# Altium schematic symbol library IC.SchLib: 51 symbols
Pins are listed as number, name and electrical type; pins without a type are passive.

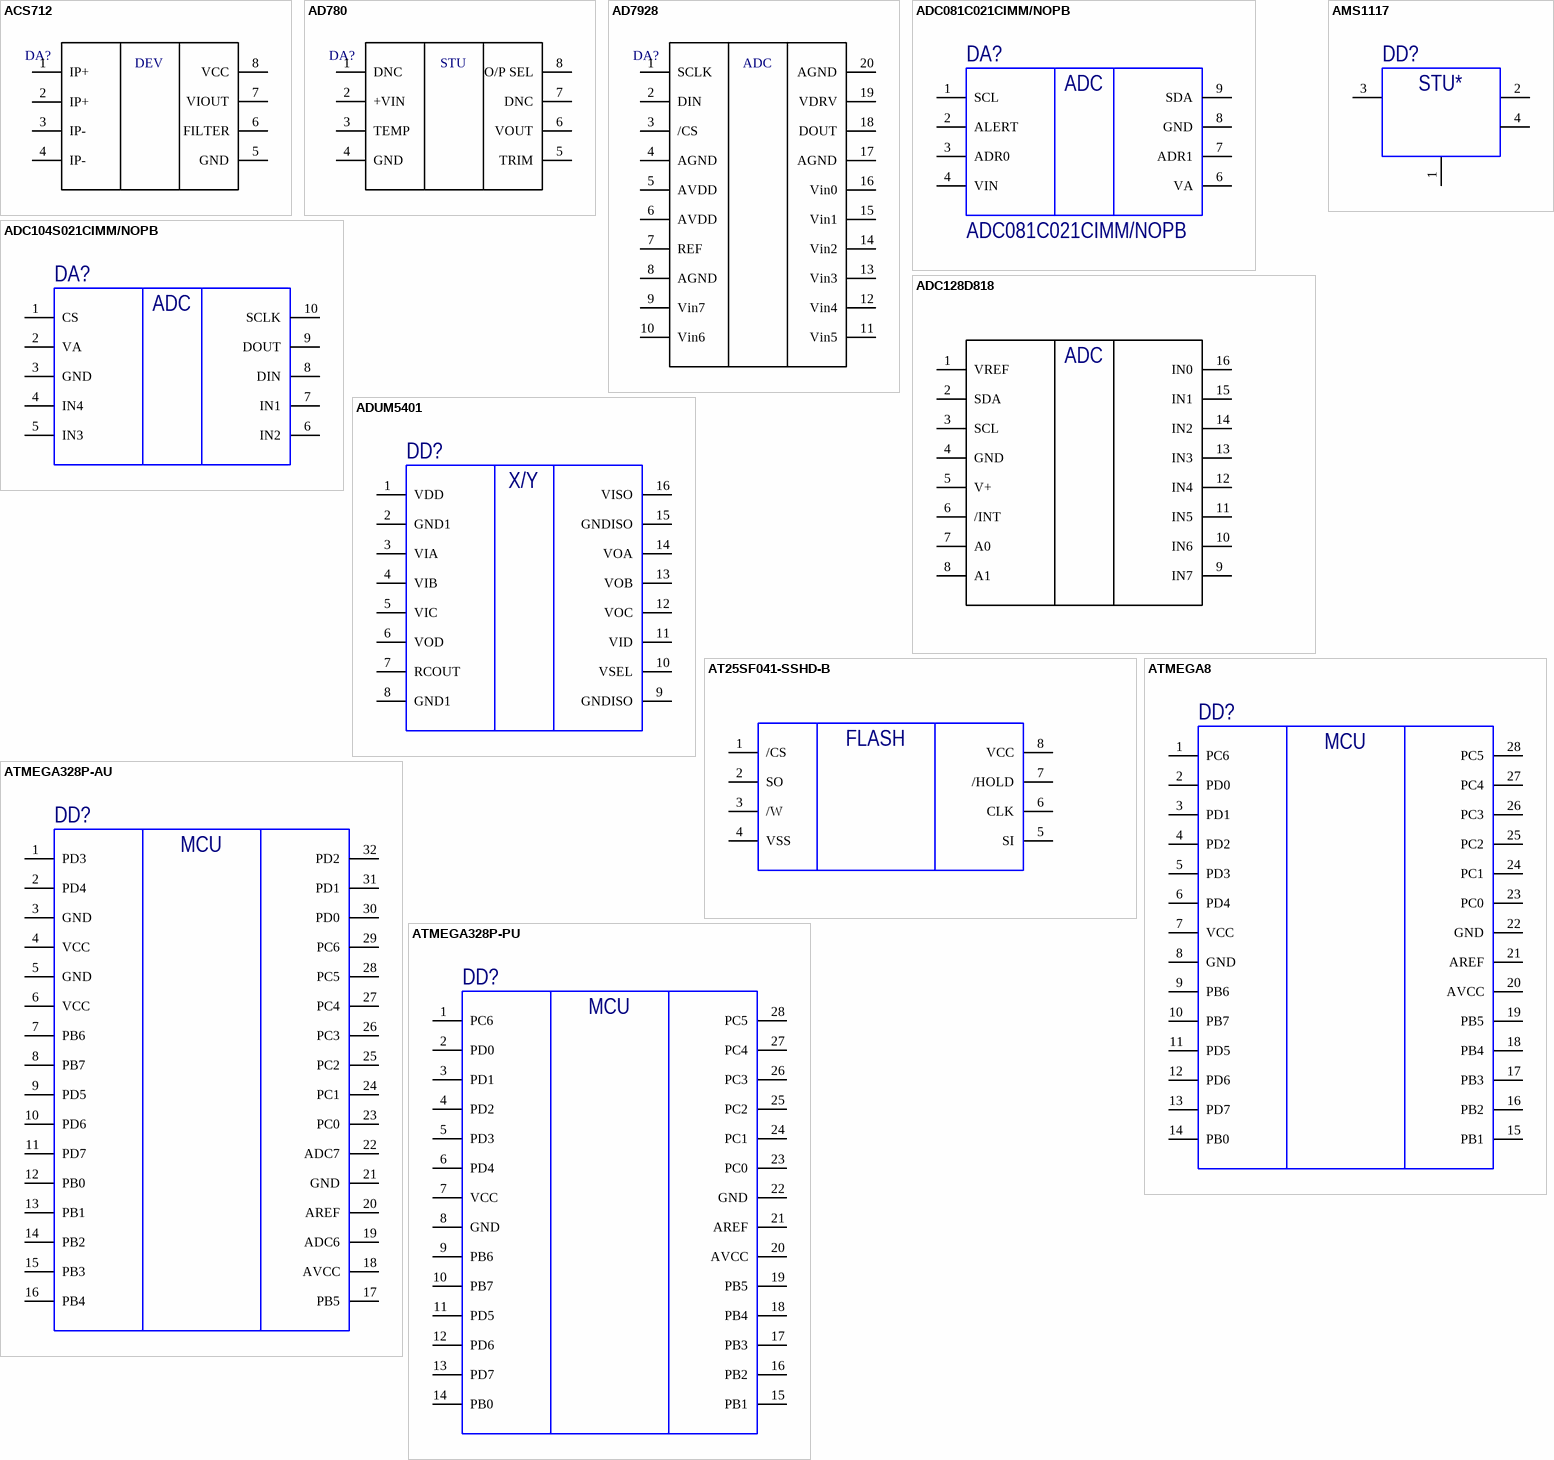
[diagram p0: symbols ACS712 to ATMEGA328P-PU]

## ACS712
designator DA?  (value not drawn)
ALLEGRO MICROSYSTEMS CS712ELCTR-30A-T; Supplier 1: Digi-Key; Supplier Part Number 1: 620-1191-1-ND
footprint SOIC127P600X175-8N (SOIC, 8-Leads, Body 4,90x3,90mm, Pitch 1,27mm, IPC Medium Density)
pins: 1 IP+, 2 IP+, 3 IP-, 4 IP-, 5 GND, 6 FILTER, 7 VIOUT, 8 VCC
text: DEV

## AD780
designator DA?  (value not drawn)
Supplier 1: Digi-Key; Supplier Part Number 1: AD780BRZ-ND
footprint SOIC127P600X175-8N (SOIC, 8-Leads, Body 4,90x3,90mm, Pitch 1,27mm, IPC Medium Density)
pins: 1 DNC, 2 +VIN, 3 TEMP, 4 GND, 5 TRIM, 6 VOUT, 7 DNC, 8 O/P SEL
text: STU

## AD7928
designator DA?  (value not drawn)
Supplier 1: Digi-Key; Supplier Part Number 1: AD7928WBRUZ-REELCT-ND
footprint TSOP65P640X120-20N (TSOP, 20-Leads, Body 6,50x4,40mm, Pitch 0,65mm, IPC Medium Density)
pins: 1 SCLK, 2 DIN, 3 /CS, 4 AGND, 5 AVDD, 6 AVDD, 7 REF, 8 AGND, 9 Vin7, 10 Vin6, 11 Vin5, 12 Vin4, 13 Vin3, 14 Vin2, 15 Vin1, 16 Vin0, 17 AGND, 18 DOUT, 19 VDRV, 20 AGND
text: ADC

## ADC081C021CIMM/NOPB
designator DA?
TEXAS INSTRUMENTS - ADC081C021CIMM/NOPB - ADC, 8BIT, 188.9KSPS, I2C, VSSOP-8; Sampling Rate: 188.9KS/s; Number of Bits: 8; Resolution: 8b; Number of A/D Converters: 1; Polarity: Unipolar; Max Power Dissipation: 12.6mW; Max Supply Voltage: 5.5V; Min Supply Voltage: 2.7V; Supply Type: Single; Integral Nonlinearity (INL): 0.25LSB; Signal to Noise Ratio (SNR): 49.8dB; Full Scale Error: 0.4LSB; Operating Supply Voltage: 5V; Manufacturer: Texas Instruments; Manufacturer Part Number: ADC081C021CIMM/NOPB; SMD: 1; Supplier 1: Digi-Key; RoHS: Yes; Category: Analog to Digital Converters (ADCs); Stock 1: 11038; Pricing 1: 1=1,16000, 10=1,03300, 25=0,98000, 100=0,75250, 250=0,66500, 500=0,63000 (USD); Mount: Surface Mount; Case/Package: MSOP; Number of Pins: 8; Contact Plating: Tin; Min Operating Temperature: -40°C; Max Operating Temperature: 105°C; Interface: I2C; Package Quantity: 1000; Number of Analog Inputs: 1; Packaging: Tape and Reel; Number of Channels: 1; Number of Converters: 1; Number of Elements: 1; Conversion Rate: 188.9KS/s; Differential Nonlinearity: 0.25LSB; Number of Inputs: 1; Length: 3.1mm; Width: 3.1mm; Height: 0.95mm; Radiation Hardening: No; REACH SVHC: No SVHC; Lead Free: Lead Free; ComponentLink1URL: https://datasheet.ciiva.com/14259/adc081c027-14259728.pdf?src-supplier=Avnet; ComponentLink1Description: https://datasheet.ciiva.com/14259/adc081c027-14259728.pdf?src-supplier=Avnet; ComponentLink2URL: https://datasheet.ciiva.com/13063/snas447b-26561-13063265.pdf?src-supplier=Mouser; ComponentLink2Description: https://datasheet.ciiva.com/13063/snas447b-26561-13063265.pdf?src-supplier=Mouser; ComponentLink3URL: https://datasheet.ciiva.com/15147/getdatasheetpartid-147321-15147782.pdf?src-supplier=Verical; ComponentLink3Description: https://datasheet.ciiva.com/15147/getdatasheetpartid-147321-15147782.pdf?src-supplier=Verical; ComponentLink4URL: https://datasheet.ciiva.com/6659/adc081c021-6659214.pdf?src-supplier=Digi-Key; ComponentLink4Description: https://datasheet.ciiva.com/6659/adc081c021-6659214.pdf?src-supplier=Digi-Key; ComponentLink5URL: https://datasheet.ciiva.com/41460/001186619-da-01-en-ic-adc-8-adc081c021cimm-nopb-vssop-8-tid-41460869.pdf?src-supplier=Conrad; ComponentLink5Description: https://datasheet.ciiva.com/41460/001186619-da-01-en-ic-adc-8-adc081c021cimm-nopb-vssop-8-tid-41460869.pdf?src-supplier=Conrad; Supplier Part Number 1: ADC081C021CIMM/NOPBCT-ND
footprint TSOP65P490X110-8M (TSOP, 8-Leads, Body 3,00x3,00mm, Pitch 0,65mm, IPC Low Density)
pins: 1 SCL, 2 ALERT, 3 ADR0, 4 VIN, 6 VA, 7 ADR1, 8 GND, 9 SDA
text: ADC

## ADC104S021CIMM/NOPB
designator DA?  (value not drawn)
IC ADC 10BIT SAR 10VSSOP; Manufacturer: Texas Instruments; Manufacturer Part Number: ADC104S021CIMM/NOPB; SMD: 1
footprint TSSOP50P490X110-10N (TSSOP, 10-Leads, Body 3,00x3,00mm, Pitch 0,50mm, IPC Medium Density)
pins: 1 CS, 2 VA, 3 GND, 4 IN4, 5 IN3, 6 IN2, 7 IN1, 8 DIN, 9 DOUT, 10 SCLK
text: ADC

## ADC128D818
designator DA?, comment ADC128D818CIMT/NOPB  (value not drawn)
IC ADC 12BIT SIGMA-DELTA 16TSSOP; Manufacturer: TI National Semiconductor; Interface: I2C,Serial; Max Supply Voltage: 5.5V; Min Supply Voltage: 3V; Nominal Supply Current: 740uA; Number of A/D Converters: 1; Number of Bits: 12; Number of Channels: 8; Polarity: Unipolar; Power Consumption: 2mW; Manufacturer Part Number: ADC128D818CIMT/NOPB; SMD: 1; Case/Package: TSSOP; Max Operating Temperature: 125°C; Min Operating Temperature: -40°C; Number of Converters: 1; Number of Elements: 1; Number of Inputs: 8; Number of Pins: 16
footprint TSOP65P640X120-16M (TSOP, 16-Leads, Body 5,00x4,40mm, Pitch 0,65mm, IPC Low Density)
pins: 1 VREF, 2 SDA, 3 SCL, 4 GND, 5 V+, 6 /INT, 7 A0, 8 A1, 9 IN7, 10 IN6, 11 IN5, 12 IN4, 13 IN3, 14 IN2, 15 IN1, 16 IN0
text: ADC

## ADUM5401
designator DD?
DGTL ISO 2.5KV GEN PURP 16SOIC; Manufacturer: Analog Devices Inc.; Manufacturer Part Number: ADUM5401ARWZ-RL; SMD: 1
footprint SOIC127P1030X265-16M (SOIC, 16-Leads, Body 10,30x7,50mm, Pitch 1,27mm, IPC Low Density)
pins: 1 VDD, 2 GND1, 3 VIA, 4 VIB, 5 VIC, 6 VOD, 7 RCOUT, 8 GND1, 9 GNDISO, 10 VSEL, 11 VID, 12 VOC, 13 VOB, 14 VOA, 15 GNDISO, 16 VISO
text: X/Y

## AMS1117
designator DD?  (value not drawn)
IC REG LIN 3.3V 800MA SOT223-4; Manufacturer: Texas Instruments; Manufacturer Part Number: LM1117MPX-3.3/NOPB; SMD: 1
footprint SOT230P700X180-4M (SOT223, 4-Leads, Body 6,50x7,00mm (avg), Pitch 2,30mm, IPC Low Density)
pins: 1 GND, 2 OUT, 3 IN, 4 OUT
text: STU*

## AT25SF041-SSHD-B
designator DD?
IC FLASH 4M SPI 104MHZ 8SOIC; Manufacturer: Adesto Technologies; Manufacturer Part Number: AT25SF041-SSHD-B; SMD: 1
footprint SOP127P600X175-8N (SOP, 8-Leads, Body 4,90x3,90mm, Pitch 1,27mm, IPC Medium Density)
pins: 1 /CS, 2 SO, 3 /W, 4 VSS, 5 SI, 6 CLK, 7 /HOLD, 8 VCC
text: FLASH

## ATMEGA8
designator DD?  (value not drawn)
IC MCU 8BIT 8KB FLASH 28DIP; Manufacturer: Microchip / Atmel; Manufacturer Part Number: ATMEGA8-16PU; TH: 1
footprint PDIP28 (Plastic Dual  Inline Package 28-lead)
pins: 1 PC6, 2 PD0, 3 PD1, 4 PD2, 5 PD3, 6 PD4, 7 VCC, 8 GND, 9 PB6, 10 PB7, 11 PD5, 12 PD6, 13 PD7, 14 PB0, 15 PB1, 16 PB2, 17 PB3, 18 PB4, 19 PB5, 20 AVCC, 21 AREF, 22 GND, 23 PC0, 24 PC1, 25 PC2, 26 PC3, 27 PC4, 28 PC5
text: MCU

## ATMEGA328P-AU
designator DD?  (value not drawn)
IC MCU 8BIT 32KB FLASH 32TQFP; Manufacturer: Microchip / Atmel; Manufacturer Part Number: ATMEGA328; SMD: 1
footprint TQFP80P900X900X120-32M (TQFP, 32-Leads, Body 7,00x7,00mm, Pitch 0,80mm, IPC Low Density)
pins: 1 PD3, 2 PD4, 3 GND, 4 VCC, 5 GND, 6 VCC, 7 PB6, 8 PB7, 9 PD5, 10 PD6, 11 PD7, 12 PB0, 13 PB1, 14 PB2, 15 PB3, 16 PB4, 17 PB5, 18 AVCC, 19 ADC6, 20 AREF, 21 GND, 22 ADC7, 23 PC0, 24 PC1, 25 PC2, 26 PC3, 27 PC4, 28 PC5, 29 PC6, 30 PD0, 31 PD1, 32 PD2
text: MCU

## ATMEGA328P-PU
designator DD?, comment ATMEGA328  (value not drawn)
IC MCU 8BIT 32KB FLASH 28DIP; Manufacturer: Microchip / Atmel; Manufacturer Part Number: ATMEGA328P-PU; TH: 1
footprint PDIP28 (Plastic Dual  Inline Package 28-lead)
pins: 1 PC6, 2 PD0, 3 PD1, 4 PD2, 5 PD3, 6 PD4, 7 VCC, 8 GND, 9 PB6, 10 PB7, 11 PD5, 12 PD6, 13 PD7, 14 PB0, 15 PB1, 16 PB2, 17 PB3, 18 PB4, 19 PB5, 20 AVCC, 21 AREF, 22 GND, 23 PC0, 24 PC1, 25 PC2, 26 PC3, 27 PC4, 28 PC5
text: MCU

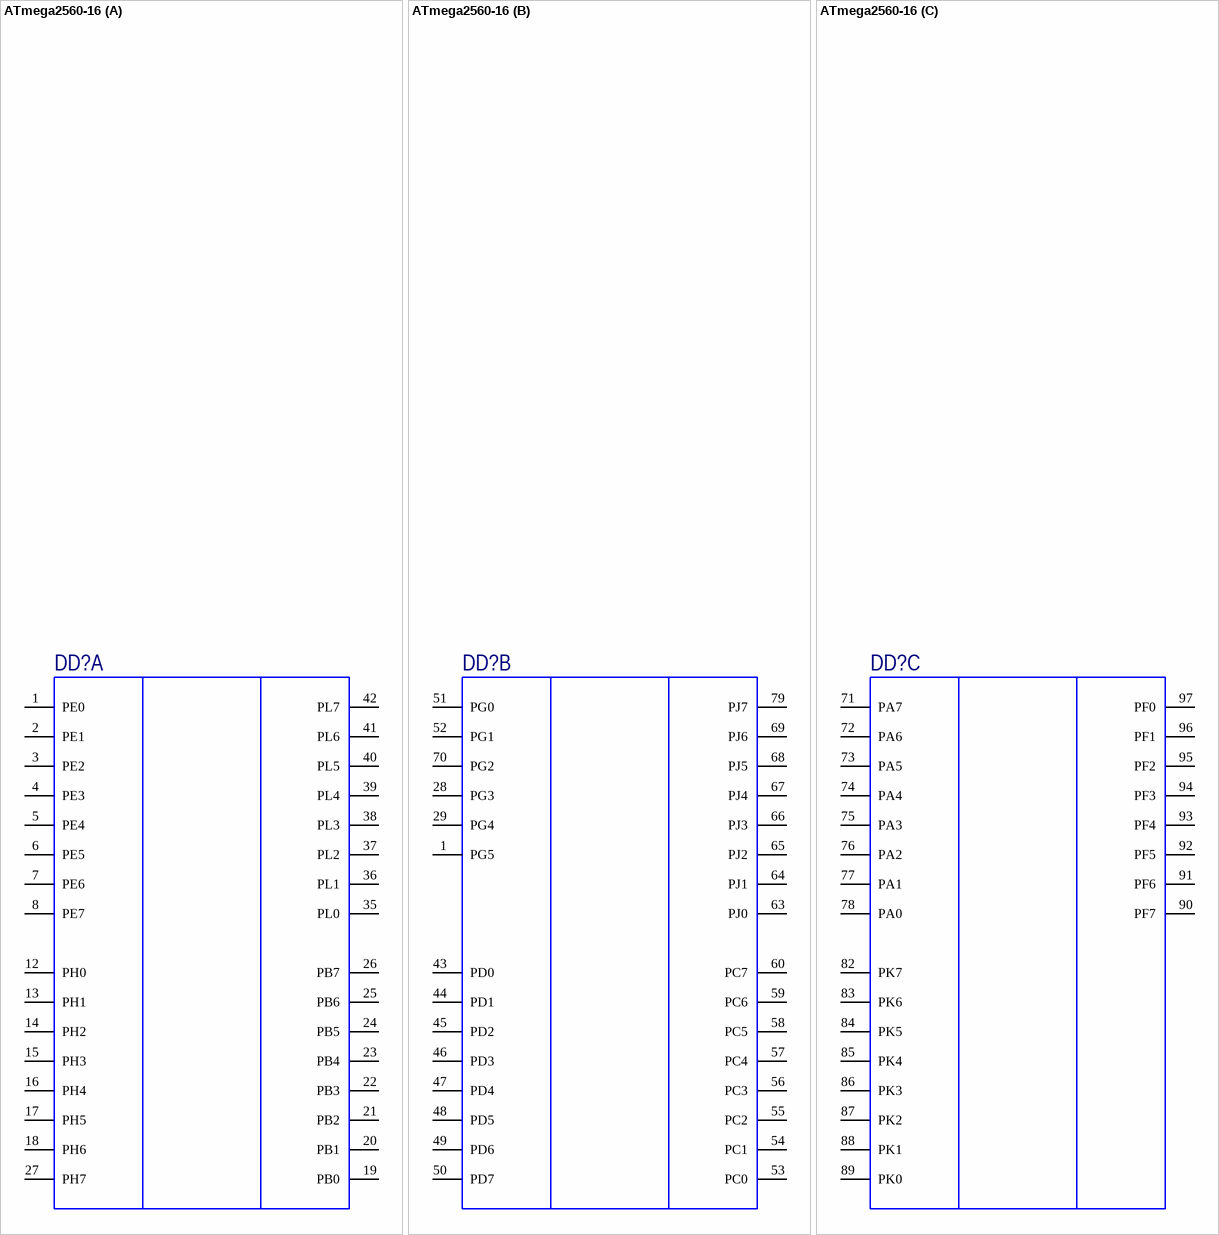
[diagram p1: symbol ATmega2560-16]

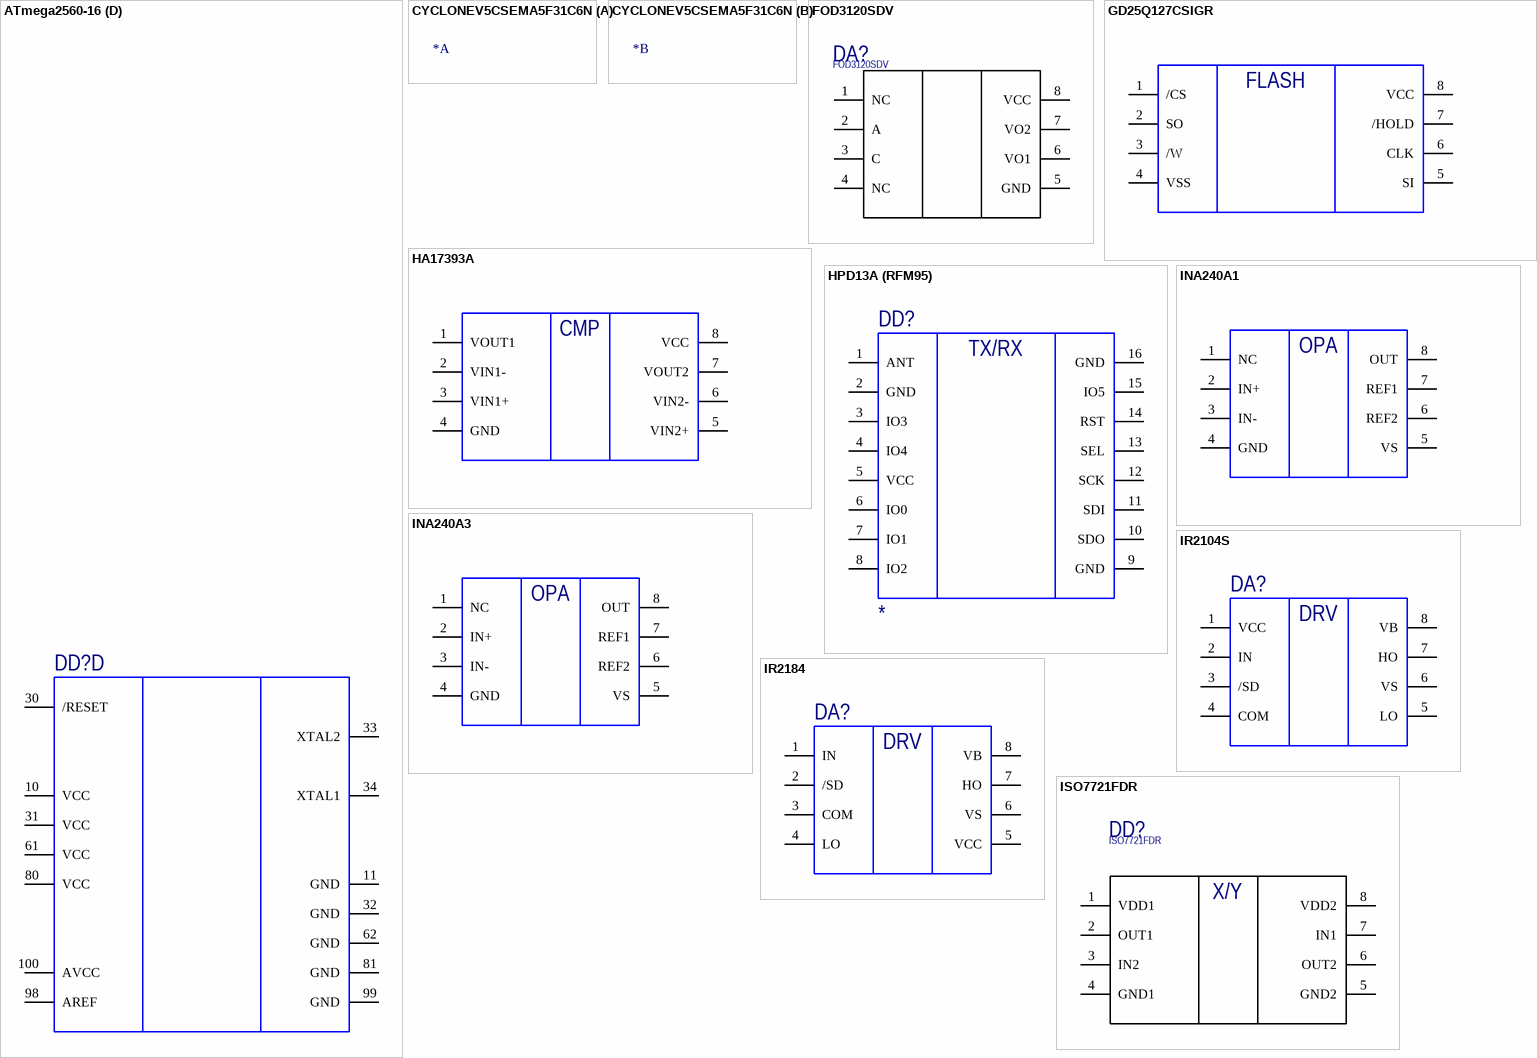
[diagram p2: symbols ATmega2560-16 to ISO7721FDR]

## ATmega2560-16
designator DD?
ATmega2560-16; Manufacturer: Microchip; Manufacturer Part Number: ATmega2560-16; SMD: 1
part A pins: 1 PE0, 2 PE1, 3 PE2, 4 PE3, 5 PE4, 6 PE5, 7 PE6, 8 PE7, 12 PH0, 13 PH1, 14 PH2, 15 PH3, 16 PH4, 17 PH5, 18 PH6, 19 PB0, 20 PB1, 21 PB2, 22 PB3, 23 PB4, 24 PB5, 25 PB6, 26 PB7, 27 PH7, 35 PL0, 36 PL1, 37 PL2, 38 PL3, 39 PL4, 40 PL5, 41 PL6, 42 PL7
part B pins: 1 PG5, 28 PG3, 29 PG4, 43 PD0, 44 PD1, 45 PD2, 46 PD3, 47 PD4, 48 PD5, 49 PD6, 50 PD7, 51 PG0, 52 PG1, 53 PC0, 54 PC1, 55 PC2, 56 PC3, 57 PC4, 58 PC5, 59 PC6, 60 PC7, 63 PJ0, 64 PJ1, 65 PJ2, 66 PJ3, 67 PJ4, 68 PJ5, 69 PJ6, 70 PG2, 79 PJ7
part C pins: 71 PA7, 72 PA6, 73 PA5, 74 PA4, 75 PA3, 76 PA2, 77 PA1, 78 PA0, 82 PK7, 83 PK6, 84 PK5, 85 PK4, 86 PK3, 87 PK2, 88 PK1, 89 PK0, 90 PF7, 91 PF6, 92 PF5, 93 PF4, 94 PF3, 95 PF2, 96 PF1, 97 PF0
part D pins: 10 VCC, 11 GND, 30 /RESET, 31 VCC, 32 GND, 33 XTAL2, 34 XTAL1, 61 VCC, 62 GND, 80 VCC, 81 GND, 98 AREF, 99 GND, 100 AVCC

## CYCLONEV5CSEMA5F31C6N
designator *  (value not drawn)
Supplier 1: Digi-Key; Supplier Part Number 1: 544-3539-ND; SMD: 1
footprint BGA896C100P30X30_3100X3100X240 (BGA, 896-Leads, Body 31,00x31,00mmx2,40mm, Pitch 1,00mm)

## FOD3120SDV
designator DA?
Fairchild FOD3120SDV MOSFET Output Optocoupler, Surface Mount, 8-Pin MDIP; Manufacturer: ON Semiconductor / Fairchild; Direction: Unidirectional; Max Power Dissipation: 250mW; Propagation Delay: 400ns; Rise Time: 60ns; Number of Channels: 1; High Level Output Current: 2A; Max Input Current: 25mA; Isolation Voltage: 5kV; Input Current: 16mA; Pulse Width Distortion (PWD): 100ns; Max Output Current: 3A; Forward Voltage: 1.5V; Output Type: PUSH-PULL; Input Type: DC; Approvals: UL,IEC; Supplier 1: Digi-Key; Manufacturer Part Number: FOD3120SDV; RoHS: Yes; Category: Optocouplers; Stock 1: 1000; Pricing 1: 1=2,01000, 10=1,27200, 100=0,94130, 500=0,86496 (USD); Mount: Surface Mount; Case/Package: SMD/SMT; Number of Pins: 8; Weight: 0.72g; Contact Plating: Tin,Matte; Min Operating Temperature: -40°C; Max Operating Temperature: 100°C; Packaging: Tape and Reel; Package Quantity: 1; Fall Time: 60ns; Low Level Output Current: 2A; Turn-On Delay Time: 400ns; Series: -; REACH SVHC: No SVHC; RoHS Compliant: Yes; ComponentLink1URL: https://datasheet.ciiva.com/2083/fod3120-2083115.pdf?src-supplier=Digi-Key; ComponentLink1Description: https://datasheet.ciiva.com/2083/fod3120-2083115.pdf?src-supplier=Digi-Key; ComponentLink2URL: https://datasheet.ciiva.com/2083/fod3120-2083116.pdf?src-supplier=Digi-Key; ComponentLink2Description: https://datasheet.ciiva.com/2083/fod3120-2083116.pdf?src-supplier=Digi-Key; ComponentLink3URL: https://datasheet.ciiva.com/26161/fod3120-26161948.pdf?src-supplier=Avnet+Europe; ComponentLink3Description: https://datasheet.ciiva.com/26161/fod3120-26161948.pdf?src-supplier=Avnet+Europe; ComponentLink4URL: https://datasheet.ciiva.com/2083/fod3120-2083117.pdf?src-supplier=Digi-Key; ComponentLink4Description: https://datasheet.ciiva.com/2083/fod3120-2083117.pdf?src-supplier=Digi-Key; ComponentLink5URL: https://datasheet.ciiva.com/1248/1524130-1248319.pdf?src-supplier=Element14; ComponentLink5Description: https://datasheet.ciiva.com/1248/1524130-1248319.pdf?src-supplier=Element14; Supplier Part Number 1: FOD3120SDVCT-ND
footprint SOP254P1040X508-8M (SOP, 8-Leads, Body 9,66x6,61mm, Pitch 2,54mm, IPC Low Density)
pins: 1 NC, 2 A, 3 C, 4 NC, 5 GND, 6 VO1, 7 VO2, 8 VCC

## GD25Q127CSIGR
designator DD?
IC FLASH 128Mb (16M x 8) SPI 8-SOIC (5.3mm Width); Manufacturer: GigaDevice Semiconductor (HK) Limited; Manufacturer Part Number: GD25Q127CSIGR; SMD: 1
footprint SOIC127P790X216-8M (SOIC, 8-Leads, Body 5,28x5,28mm, Pitch 1,27mm, IPC Low Density)
pins: 1 /CS, 2 SO, 3 /W, 4 VSS, 5 SI, 6 CLK, 7 /HOLD, 8 VCC
text: FLASH

## HA17393A
designator DA?
IC PREC COMPARATOR DUAL 8-DIP; Manufacturer: Renesas; Manufacturer Part Number: HA17393A; TH: 1
footprint DIP8
pins: 1 VOUT1, 2 VIN1-, 3 VIN1+, 4 GND, 5 VIN2+, 6 VIN2-, 7 VOUT2, 8 VCC
text: CMP

## HPD13A (RFM95)
designator DD?
RF TXRX MODULE ISM<1GHZ; Manufacturer: RF Solutions; Manufacturer Part Number: RFM95W-868S2; SMD: 1
footprint SOJ200P1600X200-16M (SOJ, 16-Leads, Body 16,00x16,00mm, Pitch 2,00mm, IPC Low Density)
pins: 1 ANT, 2 GND, 3 IO3, 4 IO4, 5 VCC, 6 IO0, 7 IO1, 8 IO2, 9 GND, 10 SDO, 11 SDI, 12 SCK, 13 SEL, 14 RST, 15 IO5, 16 GND
text: TX/RX

## INA240A1
designator DA?
IC CURR SENSE 1 CIRCUIT 8TSSOP GAIN 20V/V; Manufacturer Part Number: INA240A1PWR; Manufacturer: Texas Instruments; SMD: 1
footprint TSOP65P640X120-8M (TSOP, 8-Leads, Body 3,00x4,40mm, Pitch 0,65mm, IPC Low Density)
pins: 1 NC, 2 IN+, 3 IN-, 4 GND, 5 VS, 6 REF2, 7 REF1, 8 OUT
text: OPA

## INA240A3
designator DA?
IC CURR SENSE 1 CIRCUIT 8TSSOP; Manufacturer Part Number: INA240A3PWR; Manufacturer: Texas Instruments; SMD: 1
footprint TSOP65P640X120-8M (TSOP, 8-Leads, Body 3,00x4,40mm, Pitch 0,65mm, IPC Low Density)
pins: 1 NC, 2 IN+, 3 IN-, 4 GND, 5 VS, 6 REF2, 7 REF1, 8 OUT
text: OPA

## IR2104S
designator DA?  (value not drawn)
IC, MOSFET DRIVER, HIGH/LOW SIDE, SOIC-8; Manufacturer: Infineon Technologies; Manufacturer Part Number: IR2104STRPBF; SMD: 1
footprint SOIC127P600X175-8N (SOIC, 8-Leads, Body 4,90x3,90mm, Pitch 1,27mm, IPC Medium Density)
pins: 1 VCC, 2 IN, 3 /SD, 4 COM, 5 LO, 6 VS, 7 HO, 8 VB
text: DRV

## IR2184
designator DA?  (value not drawn)
IC, MOSFET DRIVER, HALF-BRIDGE, PDIP-8; Manufacturer: Infineon Technologies; Manufacturer Part Number: IR2104; TH: 1
footprint DIP8
pins: 1 IN, 2 /SD, 3 COM, 4 LO, 5 VCC, 6 VS, 7 HO, 8 VB
text: DRV

## ISO7721FDR
designator DD?
DGTL ISO 3KV GEN PRP 8SOIC; Manufacturer: Texas Instruments; Number of Channels: 2; Isolated Power: No; Channel Type: Unidirectional; Data Rate: 100Mbps; Propagation Delay: 16ns; Pulse Width Distortion (PWD): 4.9ns; Supplier 1: Digi-Key; Manufacturer Part Number: ISO7721FDR; RoHS: Yes; Category: Integrated Circuits (ICs); Stock 1: 4226; Pricing 1: 1=2,13000, 10=1,91000, 25=1,80200, 100=1,44160, 250=1,26140, 500=1,22536, 1000=0,97308 (USD); Mount: Surface Mount; Case/Package: SOIC; Number of Pins: 8; Min Operating Temperature: -55°C; Max Operating Temperature: 125°C; Type: General Purpose; Packaging: Tape and Reel; RoHS Compliant: Yes; ComponentLink1URL: http://www.ti.com/lit/ds/symlink/iso7720.pdf?src-supplier=Digi-Key; ComponentLink1Description: http://www.ti.com/lit/ds/symlink/iso7720.pdf?src-supplier=Digi-Key; Supplier Part Number 1: 296-48915-1-ND
footprint SOIC127P600X175-8N (SOIC, 8-Leads, Body 4,90x3,90mm, Pitch 1,27mm, IPC Medium Density)
pins: 1 VDD1, 2 OUT1, 3 IN2, 4 GND1, 5 GND2, 6 OUT2, 7 IN1, 8 VDD2
text: X/Y

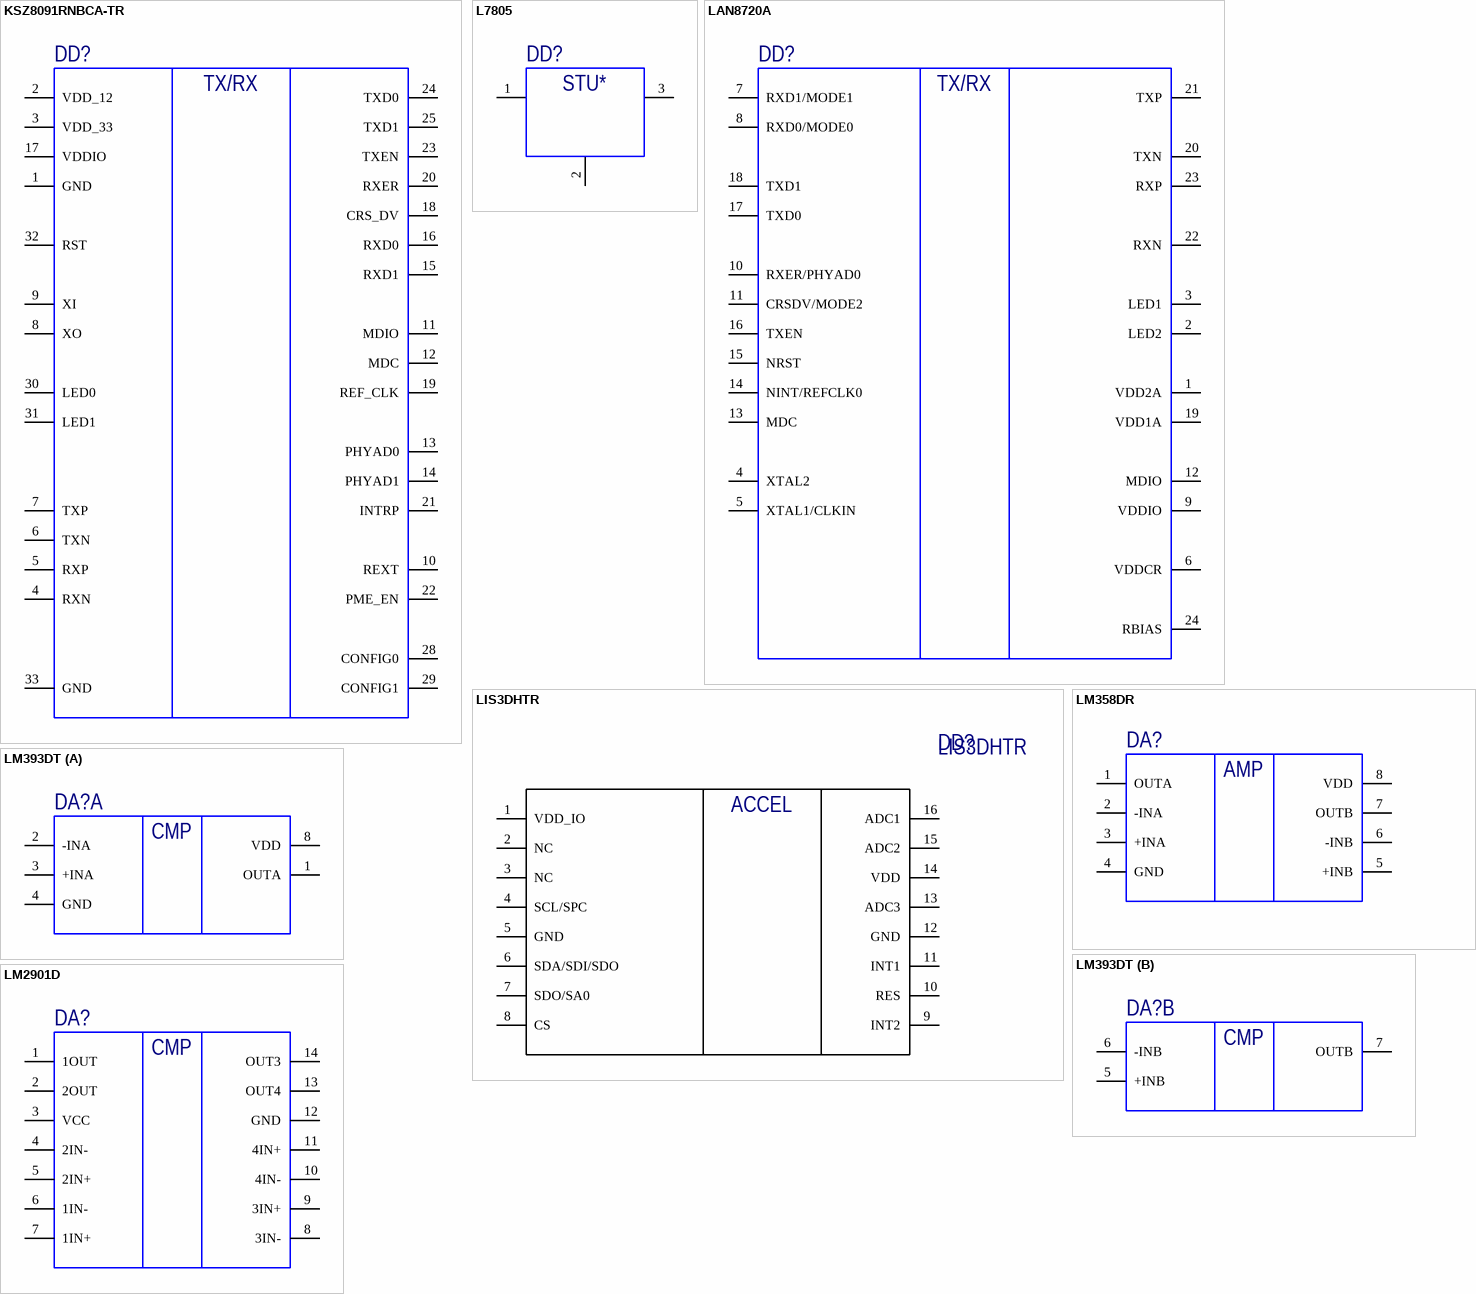
[diagram p3: symbols KSZ8091RNBCA-TR to LM2901D]

## KSZ8091RNBCA-TR
designator DD?
IC TXRX ETHERNET 32QFN; Manufacturer Part Number: KSZ8091RNBCA-TR; Manufacturer: Microchip Technology; SMD: 1
footprint QFN50P500X500X100_HS-33M (QFN, 32-Leads, Body 5,00x5,00mm, Pitch 0,50mm, Thermal Pad 3,10x3,10mm, IPC Low Density)
pins: 1 GND, 2 VDD_12, 3 VDD_33, 4 RXN, 5 RXP, 6 TXN, 7 TXP, 8 XO, 9 XI, 10 REXT, 11 MDIO, 12 MDC, 13 PHYAD0, 14 PHYAD1, 15 RXD1, 16 RXD0, 17 VDDIO, 18 CRS_DV, 19 REF_CLK, 20 RXER, 21 INTRP, 22 PME_EN, 23 TXEN, 24 TXD0, 25 TXD1, 28 CONFIG0, 29 CONFIG1, 30 LED0, 31 LED1, 32 RST, 33 GND
text: TX/RX

## L7805
designator DD?, comment L7805ABV  (value not drawn)
IC REG LINEAR 5V 1.5A TO220AB; Manufacturer: STMicroelectronics; TH: 1; Manufacturer Part Number: L7805ABV
footprint TO-220
pins: 1 IN, 2 GND, 3 OUT
text: STU*

## LAN8720A
designator DD?
IC TXRX ETHERNET 24QFN; Manufacturer: Microchip; Manufacturer Part Number: LAN8720A-CP-ABC; SMD: 1
footprint PQFN50P400X400X100_HS-25N (PQFN, 24-Leads, Body 4,00x4,00mm, Pitch 0,50mm, Thermal Pad 2,50x2,50mm, IPC Medium Density)
pins: 1 VDD2A, 2 LED2, 3 LED1, 4 XTAL2, 5 XTAL1/CLKIN, 6 VDDCR, 7 RXD1/MODE1, 8 RXD0/MODE0, 9 VDDIO, 10 RXER/PHYAD0, 11 CRSDV/MODE2, 12 MDIO, 13 MDC, 14 NINT/REFCLK0, 15 NRST, 16 TXEN, 17 TXD0, 18 TXD1, 19 VDD1A, 20 TXN, 21 TXP, 22 RXN, 23 RXP, 24 RBIAS
text: TX/RX

## LIS3DHTR
designator DD?
MEMS digital output motion sensor ultra low-power high performance 3-axes "nano" accelerometer; Manufacturer: STMicroelectronics; TH: 1; Interface: I2C,SPI; Max Supply Voltage: 3.6V; Min Supply Voltage: 1.71V; Operating Supply Current: 11uA; Operating Supply Voltage: 2.5V; Resolution: 16b; Sensor Type: 3 Axis; Axis: X, Y, Z; Bandwidth: 5kHz; Manufacturer Part Number: LIS3DHTR; Max Operating Temperature: 85°C; Length: 3mm; Max Supply Voltage (DC): 3.6V; Min Operating Temperature: -40°C; Min Supply Voltage (DC): 1.71V; Number of Pins: 16; Output Type: Digital; Width: 3mm; Supplier 1: Digi-Key; RoHS: Yes; Category: Uncategorized; Stock 1: 11582; Pricing 1: 1=1,49000, 10=1,32800, 25=1,26000, 100=1,03500, 500=0,85500, 1000=0,67500 (USD); Case/Package: LGA; Contact Plating: Gold; Package Quantity: 1; Packaging: Tape and Reel; Height: 1mm; Depth: 3mm; Radiation Hardening: No; Lead Free: Lead Free; REACH SVHC: No SVHC; ComponentLink1URL: https://datasheet.ciiva.com/7621/1718591-7621744.pdf?src-supplier=Element14; ComponentLink1Description: https://datasheet.ciiva.com/7621/1718591-7621744.pdf?src-supplier=Element14; ComponentLink2URL: https://datasheet.ciiva.com/16638/cd00274221-16638192.pdf?src-supplier=Avnet+Europe; ComponentLink2Description: https://datasheet.ciiva.com/16638/cd00274221-16638192.pdf?src-supplier=Avnet+Europe; ComponentLink3URL: https://datasheet.ciiva.com/5296/cd00274221-117431-5296513.pdf?src-supplier=Mouser; ComponentLink3Description: https://datasheet.ciiva.com/5296/cd00274221-117431-5296513.pdf?src-supplier=Mouser; ComponentLink4URL: https://datasheet.ciiva.com/26928/lis3dhtr-26928589.pdf?src-supplier=IIIC; ComponentLink4Description: https://datasheet.ciiva.com/26928/lis3dhtr-26928589.pdf?src-supplier=IIIC; ComponentLink5URL: https://datasheet.ciiva.com/2810/cd00274221-2810008.pdf?src-supplier=Digi-Key; ComponentLink5Description: https://datasheet.ciiva.com/2810/cd00274221-2810008.pdf?src-supplier=Digi-Key; ComponentLink6URL: https://datasheet.ciiva.com/2810/cd00274221-2810009.pdf?src-supplier=Digi-Key; ComponentLink6Description: https://datasheet.ciiva.com/2810/cd00274221-2810009.pdf?src-supplier=Digi-Key; ComponentLink7URL: https://datasheet.ciiva.com/48495/cd00274221-48495849.pdf?src-supplier=Avnet; ComponentLink7Description: https://datasheet.ciiva.com/48495/cd00274221-48495849.pdf?src-supplier=Avnet; ComponentLink8URL: https://datasheet.ciiva.com/2810/cd00274221-2810010.pdf?src-supplier=Digi-Key; ComponentLink8Description: https://datasheet.ciiva.com/2810/cd00274221-2810010.pdf?src-supplier=Digi-Key; ComponentLink9URL: https://datasheet.ciiva.com/16216/cd00274221-16216362.pdf?src-supplier=Future+Electronics; ComponentLink9Description: https://datasheet.ciiva.com/16216/cd00274221-16216362.pdf?src-supplier=Future+Electronics; ComponentLink10URL: https://datasheet.ciiva.com/16470/cd00274221-16470411.pdf?src-supplier=Avnet+Asia; ComponentLink10Description: https://datasheet.ciiva.com/16470/cd00274221-16470411.pdf?src-supplier=Avnet+Asia; ComponentLink11URL: https://datasheet.ciiva.com/3271/cd00274221-3271807.pdf?src-supplier=Avnet; ComponentLink11Description: https://datasheet.ciiva.com/3271/cd00274221-3271807.pdf?src-supplier=Avnet; Supplier Part Number 1: 497-10613-1-ND
footprint LGA-16
pins: 1 VDD_IO, 2 NC, 3 NC, 4 SCL/SPC, 5 GND, 6 SDA/SDI/SDO, 7 SDO/SA0, 8 CS, 9 INT2, 10 RES, 11 INT1, 12 GND, 13 ADC3, 14 VDD, 15 ADC2, 16 ADC1
text: ACCEL

## LM358DR
designator DA?
TEXAS INSTRUMENTS - LM358DR - Operational Amplifier, 2 Amplifier, 700 kHz, 0.3 V/µs, 3V to 32V, ± 1.5V to ± 16V, SOIC, 8 Pins; TH: 1; Number of Channels: 2; Output Current: 30mA; Voltage Gain: 100dB; Common Mode Rejection Ratio: 65dB; Nominal Supply Current: 1.2mA; Gain Bandwidth Product: 700kHz; Input Bias Current: 250nA; Input Offset Voltage (Vos): 7mV; Operating Supply Current: 1mA; Dual Supply Voltage: 9V; Manufacturer: Texas Instruments; Manufacturer Part Number: LM358DR; Supplier 1: Digi-Key; RoHS: Yes; Category: Amplifiers - Op Amps, Buffer, Instrumentation; Stock 1: 66026; Pricing 1: 1=0,40000, 10=0,29900, 25=0,26960, 100=0,14700, 250=0,14212, 500=0,12740, 1000=0,09800 (USD); Mount: Surface Mount; Case/Package: SOIC; Number of Pins: 8; Contact Plating: Gold; Min Operating Temperature: 0°C; Max Operating Temperature: 70°C; Packaging: Tape and Reel; Max Supply Voltage: 32V; Min Supply Voltage: 3V; Package Quantity: 2500; Min Dual Supply Voltage: 1.5V; Max Dual Supply Voltage: 16V; Operating Supply Voltage: 16V; Number of Elements: 2; Slew Rate: 0.3V/µs; Number of Circuits: 2; Output Current per Channel: 30mA; Power Supply Rejection Ratio (PSRR): 65dB; Unity Gain Bandwidth Product: 700kHz; Number of Amplifiers: 2; Bandwidth: 700kHz; Length: 4.9mm; Width: 3.91mm; Height: 1.58mm; Radiation Hardening: No; Lead Free: Lead Free; REACH SVHC: No SVHC; ComponentLink1URL: https://datasheet.ciiva.com/1795/lm358-1795488.pdf?src-supplier=Digi-Key; ComponentLink1Description: https://datasheet.ciiva.com/1795/lm358-1795488.pdf?src-supplier=Digi-Key; ComponentLink2URL: https://datasheet.ciiva.com/27056/2016330-27056228.pdf?src-supplier=Jameco; ComponentLink2Description: https://datasheet.ciiva.com/27056/2016330-27056228.pdf?src-supplier=Jameco; ComponentLink3URL: https://datasheet.ciiva.com/26847/lm358dr-26847142.pdf?src-supplier=IIIC; ComponentLink3Description: https://datasheet.ciiva.com/26847/lm358dr-26847142.pdf?src-supplier=IIIC; ComponentLink4URL: https://datasheet.ciiva.com/1795/lm358-1795489.pdf?src-supplier=Digi-Key; ComponentLink4Description: https://datasheet.ciiva.com/1795/lm358-1795489.pdf?src-supplier=Digi-Key; ComponentLink5URL: https://datasheet.ciiva.com/2973/lm358a-2973386.pdf?src-supplier=Avnet; ComponentLink5Description: https://datasheet.ciiva.com/2973/lm358a-2973386.pdf?src-supplier=Avnet; ComponentLink6URL: https://datasheet.ciiva.com/46385/1874566-46385851.pdf?src-supplier=Element14; ComponentLink6Description: https://datasheet.ciiva.com/46385/1874566-46385851.pdf?src-supplier=Element14; ComponentLink7URL: https://datasheet.ciiva.com/46390/1874566-46390414.pdf?src-supplier=Element14; ComponentLink7Description: https://datasheet.ciiva.com/46390/1874566-46390414.pdf?src-supplier=Element14; ComponentLink8URL: https://datasheet.ciiva.com/1795/lm358-1795487.pdf?src-supplier=Digi-Key; ComponentLink8Description: https://datasheet.ciiva.com/1795/lm358-1795487.pdf?src-supplier=Digi-Key; ComponentLink9URL: https://datasheet.ciiva.com/7709/1874566-7709823.pdf?src-supplier=Element14; ComponentLink9Description: https://datasheet.ciiva.com/7709/1874566-7709823.pdf?src-supplier=Element14; Supplier Part Number 1: 296-1014-1-ND
footprint SOIC127P790X216-8M (SOIC, 8-Leads, Body 5,28x5,28mm, Pitch 1,27mm, IPC Low Density)
pins: 1 OUTA, 2 -INA, 3 +INA, 4 GND, 5 +INB, 6 -INB, 7 OUTB, 8 VDD
text: AMP

## LM393DT
designator DA?
IC COMPARATOR LP DUAL 8-SOIC; Manufacturer Part Number: LM393DT; Manufacturer: STMicroelectronics; SMD: 1
footprint SOIC127P600X175-8N (SOIC, 8-Leads, Body 4,90x3,90mm, Pitch 1,27mm, IPC Medium Density)
part A pins: 1 OUTA, 2 -INA, 3 +INA, 4 GND, 8 VDD
part B pins: 5 +INB, 6 -INB, 7 OUTB
part A text: CMP
part B text: CMP

## LM2901D
designator DA?
IC QUAD DIFF COMPARATOR 14-SOIC; Manufacturer Part Number: LM2901DR; Manufacturer: Texas Instruments; SMD: 1
footprint SOIC127P600X175-14M (SOIC, 14-Leads, Body 8,65x3,90mm, Pitch 1,27mm, IPC Low Density)
pins: 1 1OUT, 2 2OUT, 3 VCC, 4 2IN-, 5 2IN+, 6 1IN-, 7 1IN+, 8 3IN-, 9 3IN+, 10 4IN-, 11 4IN+, 12 GND, 13 OUT4, 14 OUT3
text: CMP

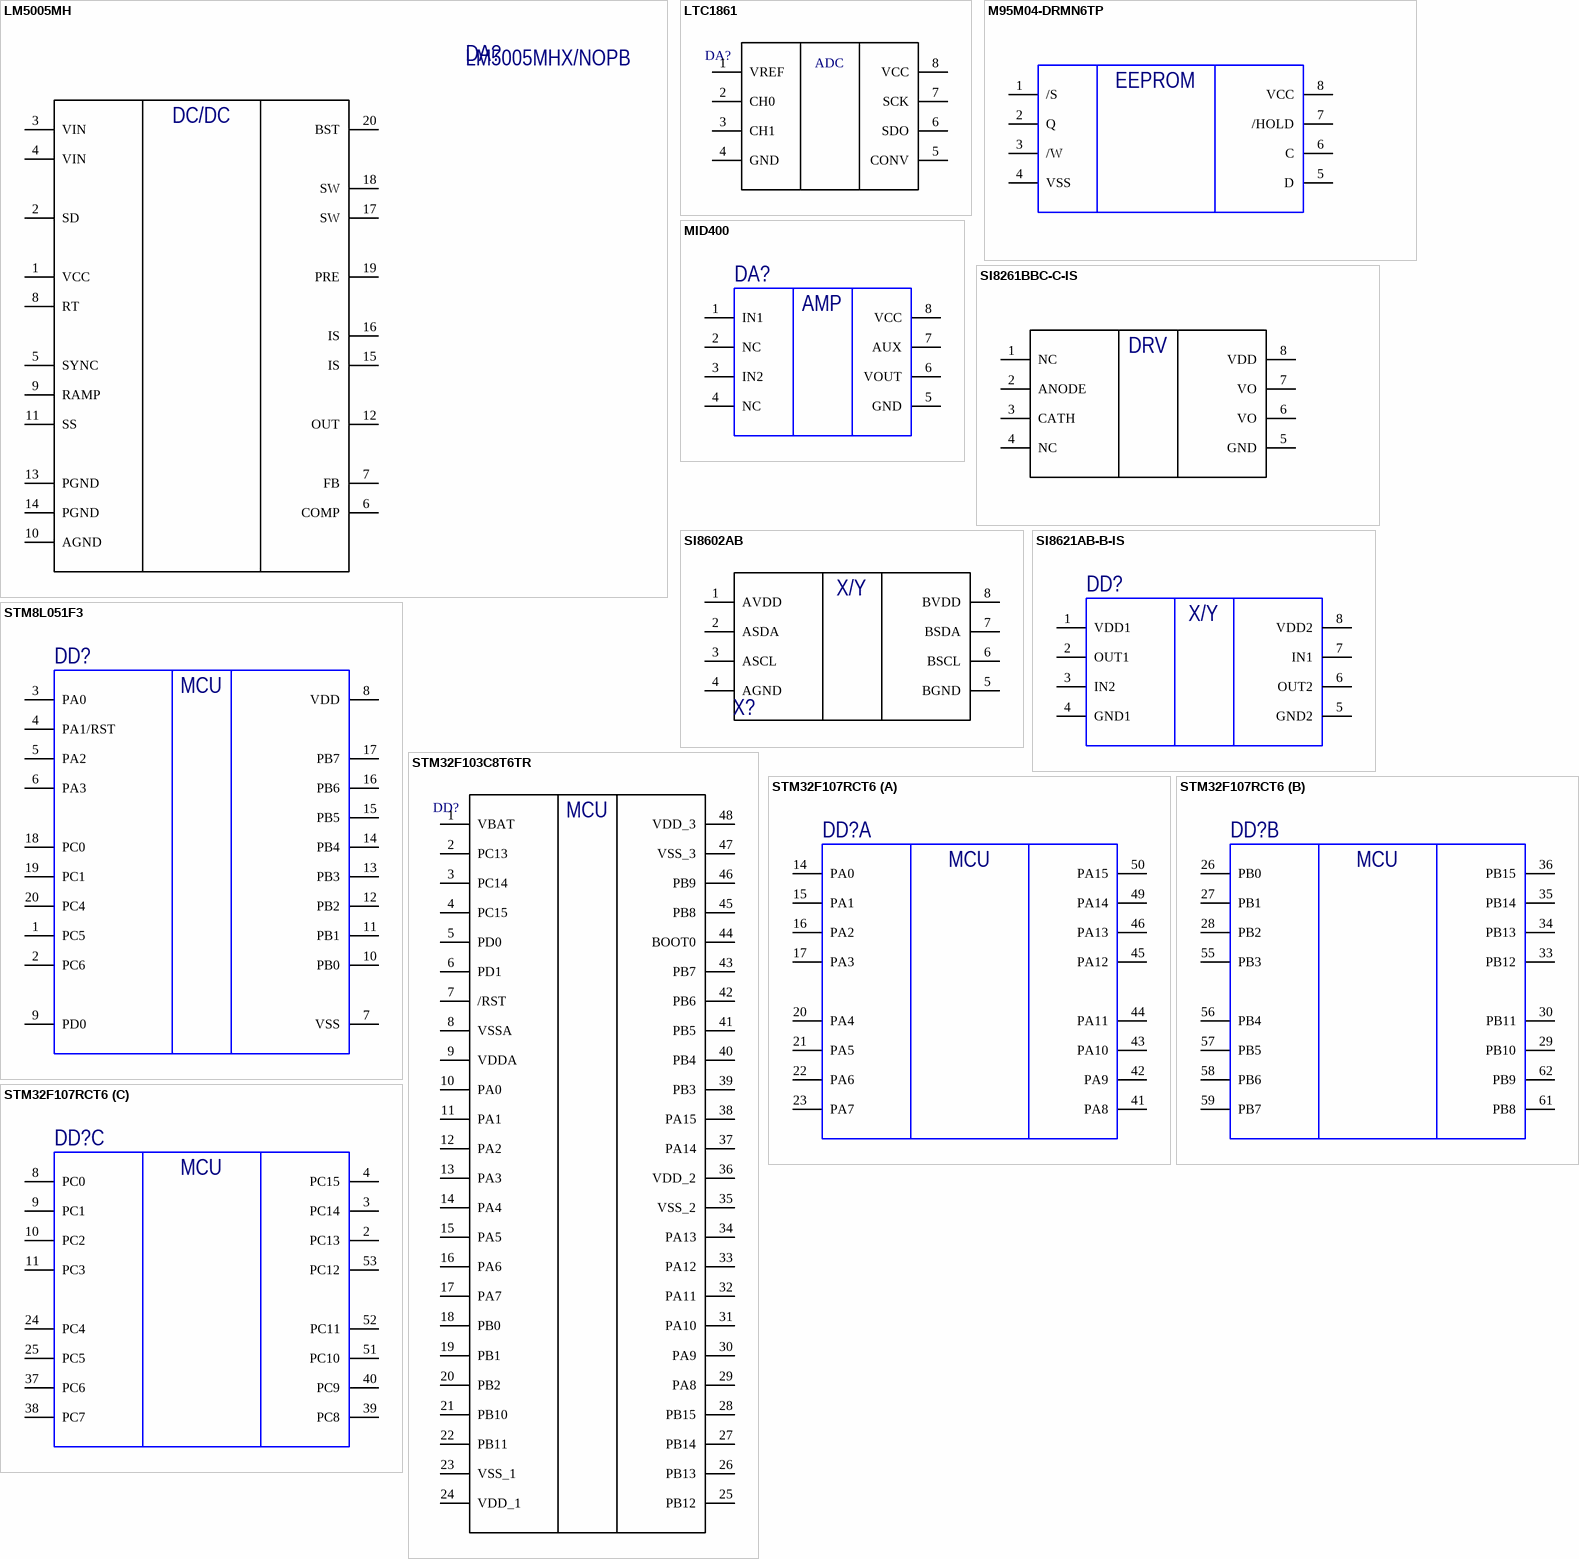
[diagram p4: symbols LM5005MH to STM32F107RCT6]

## LM5005MH
designator DA?, comment LM5005MHX/NOPB
IC REG BUCK ADJ 2.5A 20HTSSOP; Manufacturer: TI National Semiconductor; TH: 1; Efficiency: 90%; Max Input Voltage: 75V; Min Input Voltage: 7V; Output Voltage: 70V; Output Type: Adjustable; Quiescent Current: 3mA; Switching Frequency: 500kHz; Manufacturer Part Number: LM5005MHX/NOPB; Case/Package: TSSOP; Max Operating Temperature: 125°C; Min Operating Temperature: -40°C; Max Output Current: 2.5A; Mount: Surface Mount; Min Supply Voltage: 7V; Output Current: 2.5A
footprint TSOP65P640X120-20N (TSOP, 20-Leads, Body 6,50x4,40mm, Pitch 0,65mm, IPC Medium Density)
pins: 1 VCC, 2 SD, 3 VIN, 4 VIN, 5 SYNC, 6 COMP, 7 FB, 8 RT, 9 RAMP, 10 AGND, 11 SS, 12 OUT, 13 PGND, 14 PGND, 15 IS, 16 IS, 17 SW, 18 SW, 19 PRE, 20 BST
text: DC/DC

## LTC1861
designator DA?  (value not drawn)
IC ADC 12BIT SAR 8SOIC; Manufacturer: Linear Technology/Analog Devices; Manufacturer Part Number: LTC1861CS8#PBF; SMD: 1
footprint SOP127P600X175-8N (SOP, 8-Leads, Body 4,90x3,90mm, Pitch 1,27mm, IPC Medium Density)
pins: 1 VREF, 2 CH0, 3 CH1, 4 GND, 5 CONV, 6 SDO, 7 SCK, 8 VCC
text: ADC

## M95M04-DRMN6TP
designator DD?
EEPROM Memory IC 4Mb (512K x 8) SPI 10MHz  8-SOIC; Manufacturer: STMicroelectronics; Manufacturer Part Number: M95M04-DRMN6TP; SMD: 1
footprint SOP127P600X175-8N (SOP, 8-Leads, Body 4,90x3,90mm, Pitch 1,27mm, IPC Medium Density)
pins: 1 /S, 2 Q, 3 /W, 4 VSS, 5 D, 6 C, 7 /HOLD, 8 VCC
text: EEPROM

## MID400
designator DA?  (value not drawn)
MID400-ND; Manufacturer: ON Semiconductor; Manufacturer Part Number: MID400; TH: 1
footprint DIP8
pins: 1 IN1, 2 NC, 3 IN2, 4 NC, 5 GND, 6 VOUT, 7 AUX, 8 VCC
text: AMP

## SI8261BBC-C-IS
designator X?
DGTL ISO 3.75KV GATE DRVR 8SOIC; Manufacturer: Silicon Labs; Manufacturer Part Number: SI8261BBC-C-IS; SMD: 1
footprint SOIC127P600X175-8N (SOIC, 8-Leads, Body 4,90x3,90mm, Pitch 1,27mm, IPC Medium Density)
pins: 1 NC, 2 ANODE, 3 CATH, 4 NC, 5 GND, 6 VO, 7 VO, 8 VDD
text: DRV

## SI8602AB
designator X?
DGTL ISOL 2500VRMS 2CH I2C 8SOIC; Manufacturer: Silicon Labs; Manufacturer Part Number: SI8602AB; SMD: 1
footprint SOIC127P600X175-8N (SOIC, 8-Leads, Body 4,90x3,90mm, Pitch 1,27mm, IPC Medium Density)
pins: 1 AVDD, 2 ASDA, 3 ASCL, 4 AGND, 5 BGND, 6 BSCL, 7 BSDA, 8 BVDD
text: X/Y

## SI8621AB-B-IS
designator DD?
DGTL ISO 2.5KV GEN PURP 1FORWARD&1REVERSE 8SOIC; Manufacturer: Silicon Labs; Manufacturer Part Number: SI8621AB-B-IS; SMD: 1
footprint SOIC127P600X175-8N (SOIC, 8-Leads, Body 4,90x3,90mm, Pitch 1,27mm, IPC Medium Density)
pins: 1 VDD1, 2 OUT1, 3 IN2, 4 GND1, 5 GND2, 6 OUT2, 7 IN1, 8 VDD2
text: X/Y

## STM8L051F3
designator DD?
IC MCU 8BIT 8KB FLASH 20TSSOP; Manufacturer: STMicroelectronics; Manufacturer Part Number: STM8L051F3P6; SMD: 1
footprint TSOP65P640X120-20M (TSOP, 20-Leads, Body 6,50x4,40mm, Pitch 0,65mm, IPC Low Density)
pins: 1 PC5, 2 PC6, 3 PA0, 4 PA1/RST, 5 PA2, 6 PA3, 7 VSS, 8 VDD, 9 PD0, 10 PB0, 11 PB1, 12 PB2, 13 PB3, 14 PB4, 15 PB5, 16 PB6, 17 PB7, 18 PC0, 19 PC1, 20 PC4
text: MCU

## STM32F103C8T6TR
designator DD?  (value not drawn)
IC MCU 32BIT 64KB FLASH 48LQFP; Manufacturer Part Number: STM32F103C8T6TR; Manufacturer: STMicroelectronics; SMD: 1
footprint TSQFP50P900X900X160-48M (TSQFP, 48-Leads, Body 7,00x7,00mm, Pitch 0,50mm, IPC Low Density)
pins: 1 VBAT, 2 PC13, 3 PC14, 4 PC15, 5 PD0, 6 PD1, 7 /RST, 8 VSSA, 9 VDDA, 10 PA0, 11 PA1, 12 PA2, 13 PA3, 14 PA4, 15 PA5, 16 PA6, 17 PA7, 18 PB0, 19 PB1, 20 PB2, 21 PB10, 22 PB11, 23 VSS_1, 24 VDD_1, 25 PB12, 26 PB13, 27 PB14, 28 PB15, 29 PA8, 30 PA9, 31 PA10, 32 PA11, 33 PA12, 34 PA13, 35 VSS_2, 36 VDD_2, 37 PA14, 38 PA15, 39 PB3, 40 PB4, 41 PB5, 42 PB6, 43 PB7, 44 BOOT0, 45 PB8, 46 PB9, 47 VSS_3, 48 VDD_3
text: MCU

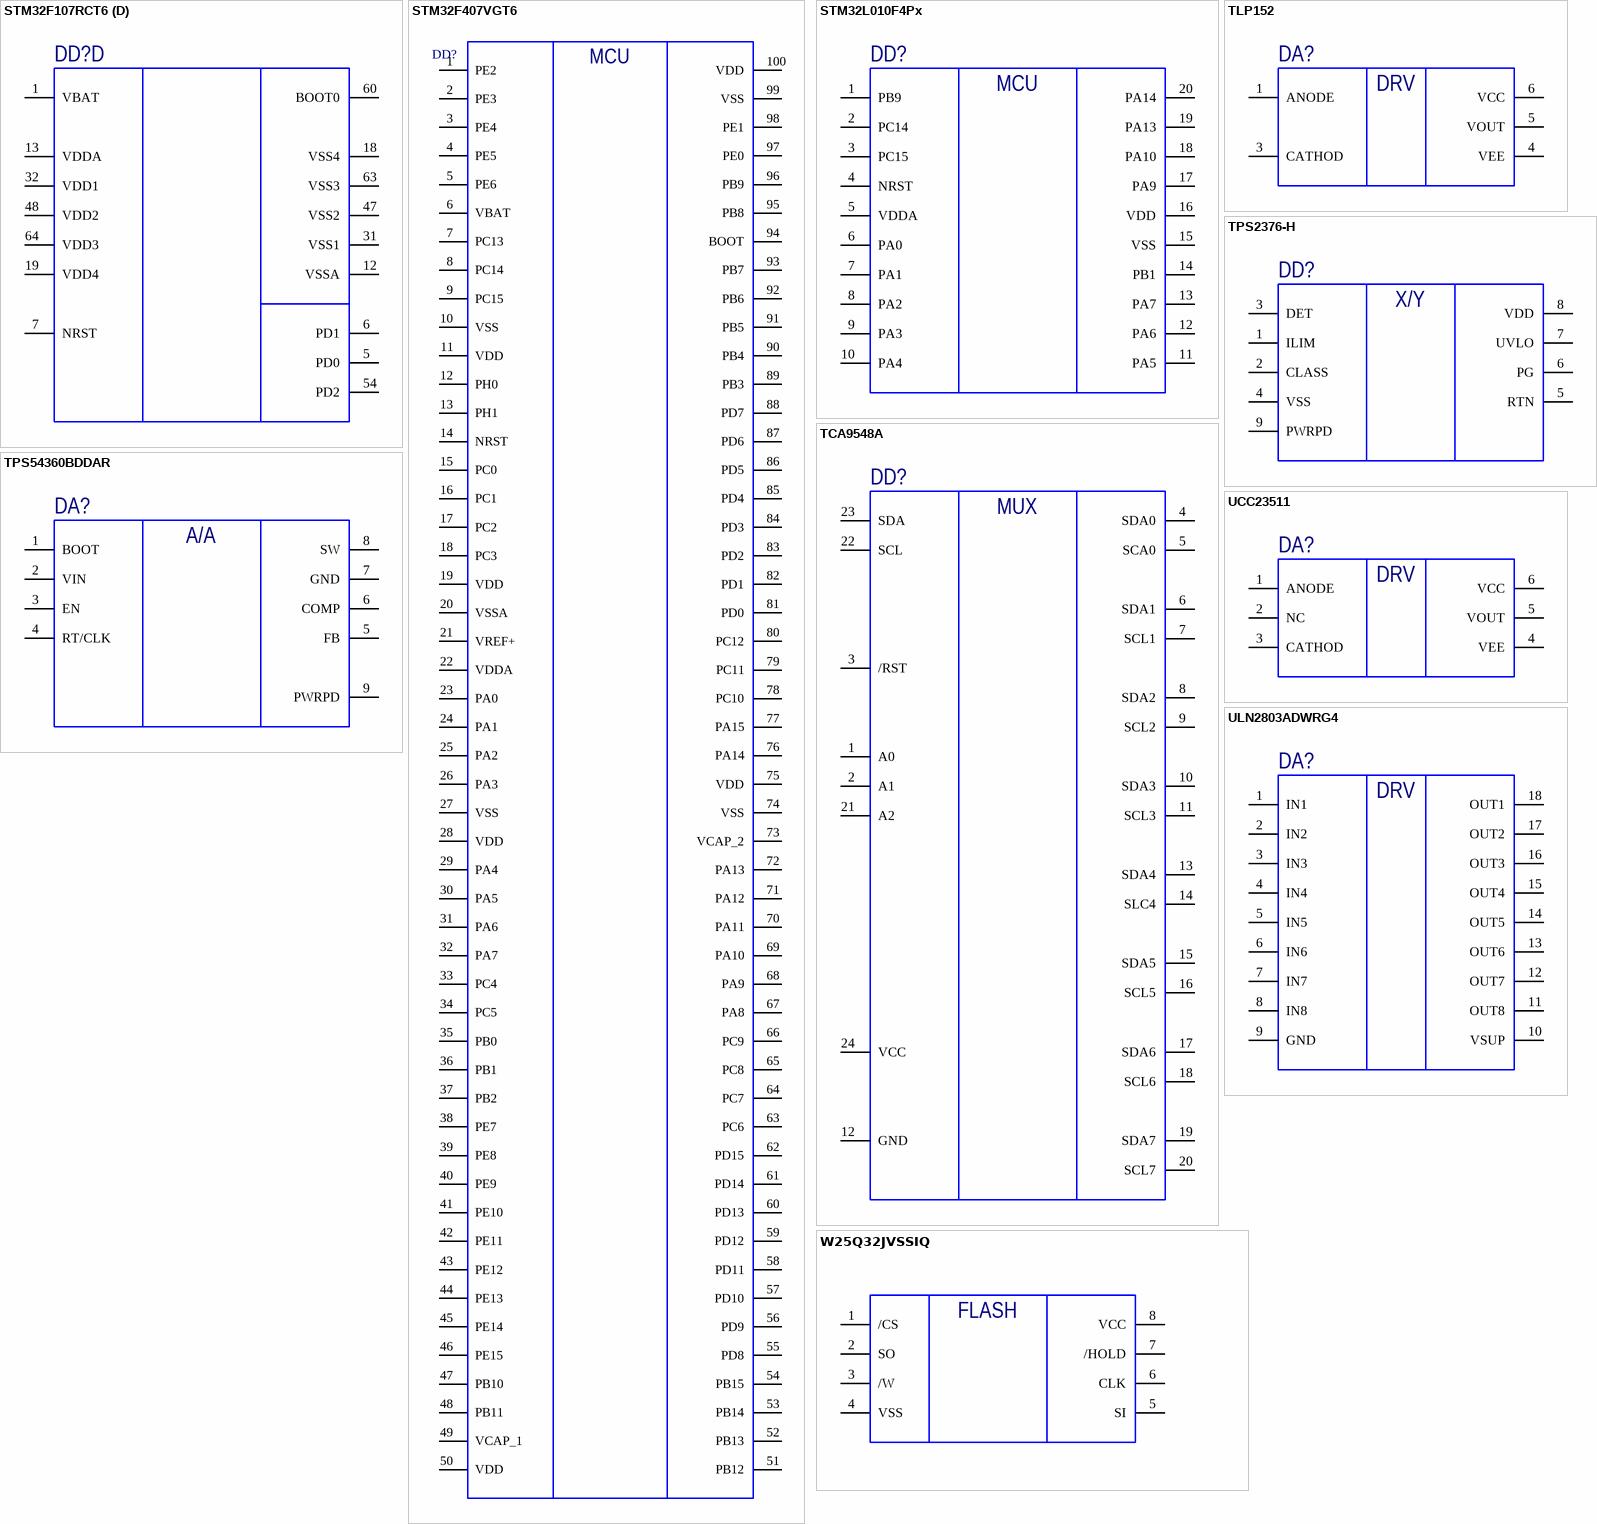
[diagram p5: symbols STM32F107RCT6 to W25Q32JVSSIQ‎]

## STM32F107RCT6
designator DD?  (value not drawn)
IC MCU 32BIT 256KB FLASH 64LQFP; Manufacturer: STMicroelectronics; Manufacturer Part Number: STM32F107RCT6TR; ComponentLink1URL: http://datasheet.iiic.cc/stmicroelectronics/STM32F107RCT6TR.pdf?src-supplier=IIIC; ComponentLink1Description: http://datasheet.iiic.cc/stmicroelectronics/STM32F107RCT6TR.pdf?src-supplier=IIIC; SMD: 1
footprint TSQFP50P1200X1200X160-64M (TSQFP, 64-Leads, Body 10,00x10,00mm, Pitch 0,50mm, IPC Low Density)
part A pins: 14 PA0, 15 PA1, 16 PA2, 17 PA3, 20 PA4, 21 PA5, 22 PA6, 23 PA7, 41 PA8, 42 PA9, 43 PA10, 44 PA11, 45 PA12, 46 PA13, 49 PA14, 50 PA15
part B pins: 26 PB0, 27 PB1, 28 PB2, 29 PB10, 30 PB11, 33 PB12, 34 PB13, 35 PB14, 36 PB15, 55 PB3, 56 PB4, 57 PB5, 58 PB6, 59 PB7, 61 PB8, 62 PB9
part C pins: 2 PC13, 3 PC14, 4 PC15, 8 PC0, 9 PC1, 10 PC2, 11 PC3, 24 PC4, 25 PC5, 37 PC6, 38 PC7, 39 PC8, 40 PC9, 51 PC10, 52 PC11, 53 PC12
part D pins: 1 VBAT, 5 PD0, 6 PD1, 7 NRST, 12 VSSA, 13 VDDA, 18 VSS4, 19 VDD4, 31 VSS1, 32 VDD1, 47 VSS2, 48 VDD2, 54 PD2, 60 BOOT0, 63 VSS3, 64 VDD3
part A text: MCU
part B text: MCU
part C text: MCU

## STM32F407VGT6
designator DD?  (value not drawn)
ARM® Cortex®-M4 STM32F4 Microcontroller IC 32-Bit 168MHz 1MB (1M x 8) FLASH 100-LQFP (14x14); Manufacturer Part Number: STM32F407VGT6; Manufacturer: STMicroelectronics; SMD: 1
footprint TSQFP50P1600X1600X160-100M (TSQFP, 100-Leads, Body 14,00x14,00mm, Pitch 0,50mm, IPC Low Density)
pins: 1 PE2, 2 PE3, 3 PE4, 4 PE5, 5 PE6, 6 VBAT, 7 PC13, 8 PC14, 9 PC15, 10 VSS, 11 VDD, 12 PH0, 13 PH1, 14 NRST, 15 PC0, 16 PC1, 17 PC2, 18 PC3, 19 VDD, 20 VSSA, 21 VREF+, 22 VDDA, 23 PA0, 24 PA1, 25 PA2, 26 PA3, 27 VSS, 28 VDD, 29 PA4, 30 PA5, 31 PA6, 32 PA7, 33 PC4, 34 PC5, 35 PB0, 36 PB1, 37 PB2, 38 PE7, 39 PE8, 40 PE9, 41 PE10, 42 PE11, 43 PE12, 44 PE13, 45 PE14, 46 PE15, 47 PB10, 48 PB11, 49 VCAP_1, 50 VDD, 51 PB12, 52 PB13, 53 PB14, 54 PB15, 55 PD8, 56 PD9, 57 PD10, 58 PD11, 59 PD12, 60 PD13, 61 PD14, 62 PD15, 63 PC6, 64 PC7, 65 PC8, 66 PC9, 67 PA8, 68 PA9, 69 PA10, 70 PA11, 71 PA12, 72 PA13, 73 VCAP_2, 74 VSS, 75 VDD, 76 PA14, 77 PA15, 78 PC10, 79 PC11, 80 PC12, 81 PD0, 82 PD1, 83 PD2, 84 PD3, 85 PD4, 86 PD5, 87 PD6, 88 PD7, 89 PB3, 90 PB4, 91 PB5, 92 PB6, 93 PB7, 94 BOOT, 95 PB8, 96 PB9, 97 PE0, 98 PE1, 99 VSS, 100 VDD
text: MCU

## STM32L010F4Px
designator DD?
16/32-BITS MICROS; Manufacturer: STMicroelectronics; Manufacturer Part Number: STM32L010F4P6; SMD: 1
footprint TSOP65P640X120-20M (TSOP, 20-Leads, Body 6,50x4,40mm, Pitch 0,65mm, IPC Low Density)
pins: 1 PB9, 2 PC14, 3 PC15, 4 NRST, 5 VDDA, 6 PA0, 7 PA1, 8 PA2, 9 PA3, 10 PA4, 11 PA5, 12 PA6, 13 PA7, 14 PB1, 15 VSS, 16 VDD, 17 PA9, 18 PA10, 19 PA13, 20 PA14
text: MCU

## TCA9548A
designator DD?
IC I2C SW 8CH W/RESET 24TSSOP; Manufacturer: Texas Instruments; Manufacturer Part Number: TCA9548APWR; SMD: 1
footprint TSOP65P640X120-24M (TSOP, 24-Leads, Body 7,80x4,40mm, Pitch 0,65mm, IPC Low Density)
pins: 1 A0, 2 A1, 3 /RST, 4 SDA0, 5 SCA0, 6 SDA1, 7 SCL1, 8 SDA2, 9 SCL2, 10 SDA3, 11 SCL3, 12 GND, 13 SDA4, 14 SLC4, 15 SDA5, 16 SCL5, 17 SDA6, 18 SCL6, 19 SDA7, 20 SCL7, 21 A2, 22 SCL, 23 SDA, 24 VCC
text: MUX

## TLP152
designator DA?
2.5A Gate Driver Optical Coupling 3750Vrms 1 Channel 6-SO, 5 Lead; Manufacturer: Toshiba Semiconductor and Storage; Manufacturer Part Number: TLP152(TPL,E
footprint SOIC127P700X210-5M (SOIC, 5-Leads, Body 3,75x4,60mm, Pitch 1,27mm, IPC Low Density)
pins: 1 ANODE, 3 CATHOD, 4 VEE, 5 VOUT, 6 VCC
text: DRV

## TPS2376-H
designator DD?
POE POWERED DEVICE CONTROLLER, 57V, 8-SOIC; Manufacturer: Texas Instruments; Manufacturer Part Number: TPS2376DDA-H; SMD: 1
footprint SOIC127P600X170-8N_TPAD (SOIC, 8-Leads, Body 4,90x3,90mm, Pitch 1,27mm, Thermal Pad 3,10x2,40mm, IPC Low Density)
pins: 1 ILIM, 2 CLASS, 3 DET, 4 VSS, 5 RTN, 6 PG, 7 UVLO, 8 VDD, 9 PWRPD
text: X/Y

## TPS54360BDDAR
designator DA?
IC REG BUCK SPLIT RAIL 8SOPWRPAD; Manufacturer: Texas Instruments; Manufacturer Part Number: TPS54360BDDAR; SMD: 1
footprint SOIC127P600X170-8N_TPAD (SOIC, 8-Leads, Body 4,90x3,90mm, Pitch 1,27mm, Thermal Pad 3,10x2,40mm, IPC Low Density)
pins: 1 BOOT, 2 VIN, 3 EN, 4 RT/CLK, 5 FB, 6 COMP, 7 GND, 8 SW, 9 PWRPD
text: A/A

## UCC23511
designator DA?
2A, 1.5A Gate Driver Capacitive Coupling 5700Vrms 1 Channel 6-SOIC; Manufacturer: Texas Instruments; Manufacturer Part Number: UCC23511DWYR
footprint SOIC127P1150X355-6M (SOIC, 6-Leads, Body 4,67x7,50mm, Pitch 1,27mm, IPC Low Density)
pins: 1 ANODE, 2 NC, 3 CATHOD, 4 VEE, 5 VOUT, 6 VCC
text: DRV

## ULN2803ADWRG4
designator DA?
Bipolar (BJT) Transistor Array 8 NPN Darlington 50V 500mA   Surface Mount 18-SOIC; Manufacturer: Texas Instruments; Manufacturer Part Number: ULN2803ADWRG4
footprint SOIC127P1030X265-18M (SOIC, 18-Leads, Body 11,55x7,50mm, Pitch 1,27mm, IPC Low Density)
pins: 1 IN1, 2 IN2, 3 IN3, 4 IN4, 5 IN5, 6 IN6, 7 IN7, 8 IN8, 9 GND, 10 VSUP, 11 OUT8, 12 OUT7, 13 OUT6, 14 OUT5, 15 OUT4, 16 OUT3, 17 OUT2, 18 OUT1
text: DRV

## W25Q32JVSSIQ‎
designator DD?
IC FLASH 32M SPI 133MHZ 8SOIC; Manufacturer: Winbond Electronics; Manufacturer Part Number: W25Q32JVSSIQ‎; SMD: 1
footprint SOIC127P790X216-8M (SOIC, 8-Leads, Body 5,28x5,28mm, Pitch 1,27mm, IPC Low Density)
pins: 1 /CS, 2 SO, 3 /W, 4 VSS, 5 SI, 6 CLK, 7 /HOLD, 8 VCC
text: FLASH

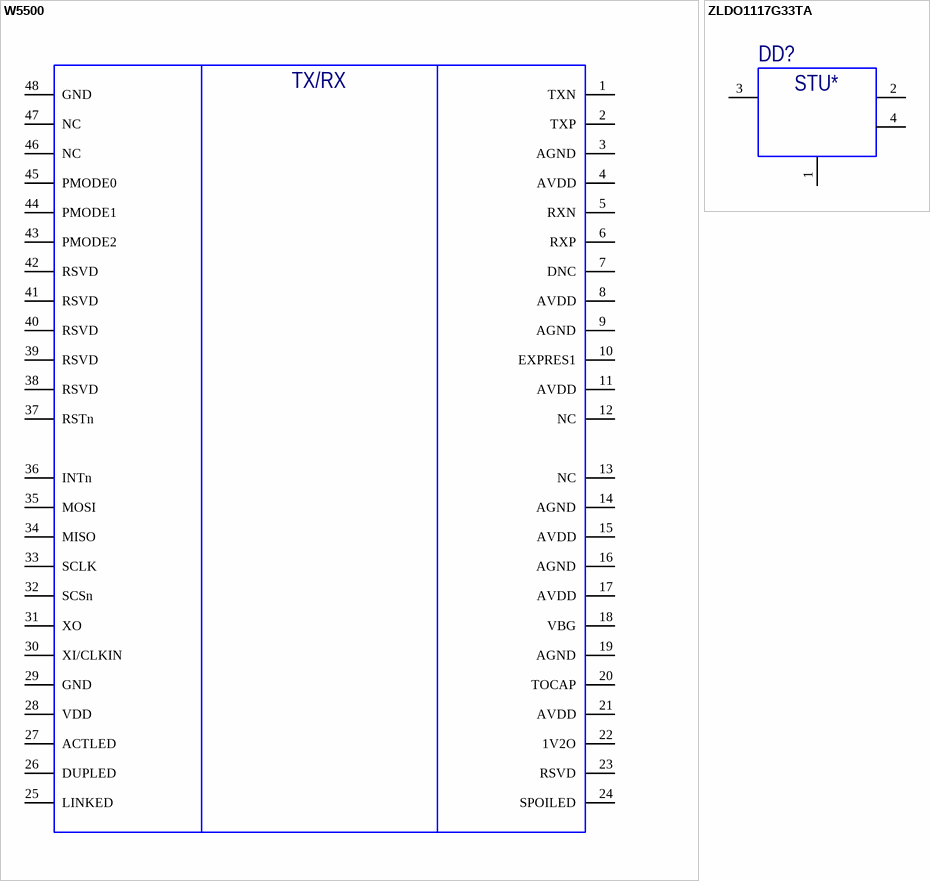
[diagram p6: symbols W5500 to ZLDO1117G33TA]

## W5500
designator DD?
IC CTLR 3-1 ETH TCP/IP 48LQFP; Manufacturer: WIZnet; Manufacturer Part Number: W5500; SMD: 1
footprint TSQFP50P900X900X160-48M (TSQFP, 48-Leads, Body 7,00x7,00mm, Pitch 0,50mm, IPC Low Density)
pins: 1 TXN, 2 TXP, 3 AGND, 4 AVDD, 5 RXN, 6 RXP, 7 DNC, 8 AVDD, 9 AGND, 10 EXPRES1, 11 AVDD, 12 NC, 13 NC, 14 AGND, 15 AVDD, 16 AGND, 17 AVDD, 18 VBG, 19 AGND, 20 TOCAP, 21 AVDD, 22 1V2O, 23 RSVD, 24 SPOILED, 25 LINKED, 26 DUPLED, 27 ACTLED, 28 VDD, 29 GND, 30 XI/CLKIN, 31 XO, 32 SCSn, 33 SCLK, 34 MISO, 35 MOSI, 36 INTn, 37 RSTn, 38 RSVD, 39 RSVD, 40 RSVD, 41 RSVD, 42 RSVD, 43 PMODE2, 44 PMODE1, 45 PMODE0, 46 NC, 47 NC, 48 GND
text: TX/RX

## ZLDO1117G33TA
designator DD?  (value not drawn)
IC REG LINEAR 3.3V 1A SOT223; Manufacturer: Diodes Incorporated; Manufacturer Part Number: ZLDO1117G33TA; SMD: 1
footprint SOT230P695X165-4N (SOT223, 4-Leads, Body 6,48x6,95mm (avg), Pitch 2,30mm, IPC Medium Density)
pins: 1 GND, 2 OUT, 3 IN, 4 OUT
text: STU*